# EAGLE library part DF9-41P-1V(32) (library Hirose_By_element14_Batch_1)
PLUG, 1MM, 41WAY
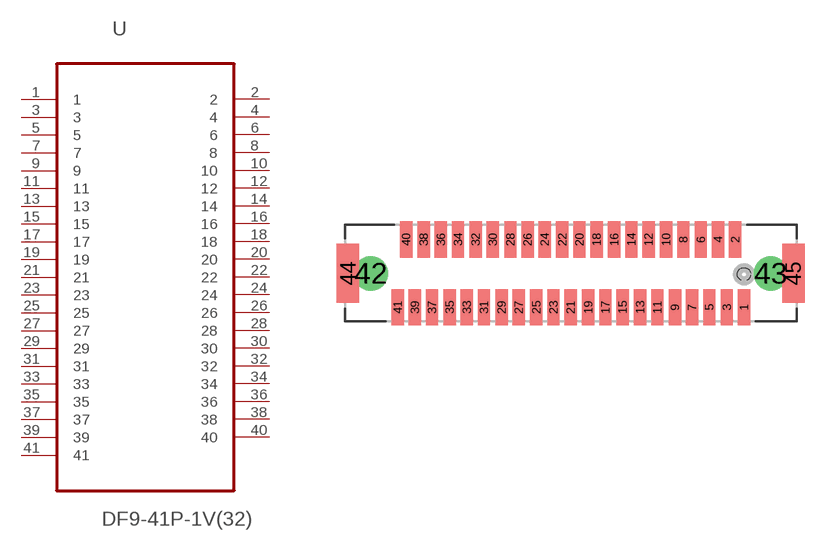
[diagram p1: symbol with the pads of HIROSE_DF9-41P-1V(32); footprint HIROSE_DF9-41P-1V(32)]

Designator prefix U

## DF9-41P-1V(32) (MPN: DF9-41P-1V(32); OC_FARNELL: 1798383; OC_NEWARK: 74R3384; PACKAGE: PLUG, 1MM, 41WAY; SUPPLIER: Hirose)  [HIROSE_DF9-41P-1V(32)]
1  1  pas
2  2  pas
3  3  pas
4  4  pas
5  5  pas
6  6  pas
7  7  pas
8  8  pas
9  9  pas
10  10  pas
11  11  pas
12  12  pas
13  13  pas
14  14  pas
15  15  pas
16  16  pas
17  17  pas
18  18  pas
19  19  pas
20  20  pas
21  21  pas
22  22  pas
23  23  pas
24  24  pas
25  25  pas
26  26  pas
27  27  pas
28  28  pas
29  29  pas
30  30  pas
31  31  pas
32  32  pas
33  33  pas
34  34  pas
35  35  pas
36  36  pas
37  37  pas
38  38  pas
39  39  pas
40  40  pas
41  41  pas

## Footprint HIROSE_DF9-41P-1V(32) (pad centres in mm)
smd 0.711 x 2.083: 1 0,0; 2 -0.508,3.912; 3 -0.991,0; 4 -1.499,3.912; 5 -2.007,0; 6 -2.489,3.912; 7 -2.997,0; 8 -3.505,3.912; 9 -3.988,0; 10 -4.496,3.912; 11 -5.004,0; 12 -5.512,3.912; 13 -5.994,0; 14 -6.502,3.912; 15 -7.01,0; 16 -7.493,3.912; 17 -8.001,0; 18 -8.509,3.912; 19 -8.992,0; 20 -9.5,3.912; 21 -10.008,0; 22 -10.49,3.912; 23 -10.998,0; 24 -11.506,3.912; 25 -11.989,0; 26 -12.497,3.912; 27 -13.005,0; 28 -13.487,3.912; 29 -13.995,0; 30 -14.503,3.912; 31 -15.011,0; 32 -15.494,3.912; 33 -16.002,0; 34 -16.51,3.912; 35 -16.993,0; 36 -17.501,3.912; 37 -18.009,0; 38 -18.491,3.912; 39 -18.999,0; 40 -19.507,3.912; 41 -19.99,0
drill 1.321: 42 -21.539,1.956; 43 1.549,1.956
smd 1.295 x 3.404: 44 -22.86,1.956; 45 2.845,1.956